# EAGLE library part MIC94061 (library GW-devices)
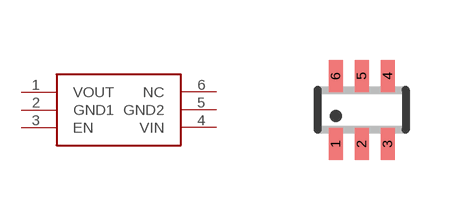
[diagram p22: symbol with the pads of SC70-6L; footprint SC70-6L]

Designator prefix U

## MIC94061C6 (MFGN: Micrel; MFGP: MIC94061YC6 TR; PRICE: 1.50)  [SC70-6L]
1  VOUT
2  GND1
3  EN
4  VIN
5  GND2
6  NC

## Footprint SC70-6L (pad centres in mm)
SC-70 Package
smd 0.35 x 0.8: 1 -0.65,-0.85; 2 0,-0.85; 3 0.65,-0.85; 4 0.65,0.85; 5 0,0.85; 6 -0.65,0.85